# Altium footprint library TYPE-C24pin标准 端子连接器.PcbLib: 1 footprints
Each footprint in its own frame and in the unit in brackets; x right, y up, seen from the top. Pads: shape width x height; smd on the part's side, far side on the other; paste and mask are expansions set on the pad; w line width, h text height; cw(c..) or ccw(c..) is an arc to the next point about the centre after c.
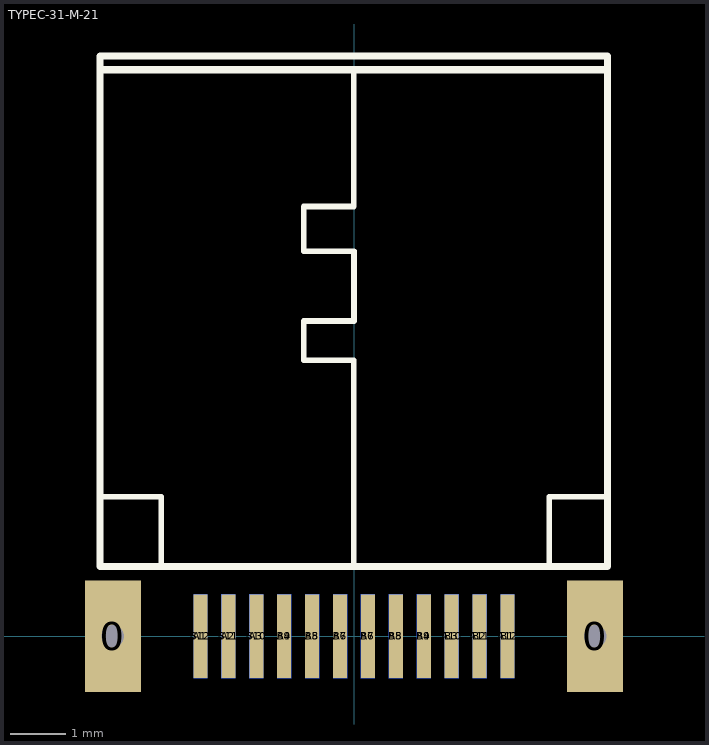
[diagram p0: the footprint, top view; thin cyan lines are the x and y axes]

## TYPEC-31-M-21 [mm] "TYPE-C母座 TYPE-C-31-M-21 夹板 1.0"
pads (26):
  rect 1x2 hole 0.4: 0(-4.32,0) 0(4.32,0)
  rect 0.25x1.5 smd: A1(-2.75,0) A2(-2.25,0) A3(-1.75,0) A4(-1.25,0) A5(-0.75,0) A6(-0.25,0) A7(0.25,0) A8(0.75,0) A9(1.25,0) A10(1.75,0) A11(2.25,0) A12(2.75,0)
  rect 0.25x1.5 smd far side: B1(2.75,0) B2(2.25,0) B3(1.75,0) B4(1.25,0) B5(0.75,0) B6(0.25,0) B7(-0.25,0) B8(-0.75,0) B9(-1.25,0) B10(-1.75,0) B11(-2.25,0) B12(-2.75,0)
Top Overlay:
  lines w0.1: -4.5,2.5 -3.45,2.5 -3.45,1.25 ; -0.005,1.25 -0.005,4.95 -0.9,4.95 -0.9,5.65 0,5.65 0,6.9 -0.9,6.9 -0.9,7.7 -0.005,7.7 -0.005,10.15 ; 3.5,1.25 3.5,2.5 4.54,2.5
  lines w0.127: -4.55,10.151 4.54,10.151 ; -4.55,1.25 4.54,1.25 4.54,10.4 -4.55,10.4 -4.55,1.25
3D body "model1.stp": height 1.68, standoff -2.13, extent -4.258,-0.068 4.242,12.972